# Altium schematic symbol library Supervisor.SchLib: 1 symbol
Pins are listed as number, name and electrical type; pins without a type are passive.

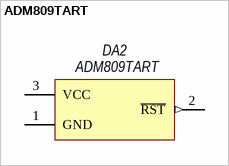
[diagram p0: symbol ADM809TART]

## ADM809TART
designator DA2
Supervisory; Manufacturer: Analog Devices; Part: ADM809TART; Package: SOT-23
footprint SOT23
pins: 1 GND (power), 2 ~{RST} (out), 3 VCC (power)